# EAGLE library part USB-A (library usb)
USB 2.0 4Pin A Type Male Plug SMT Connector
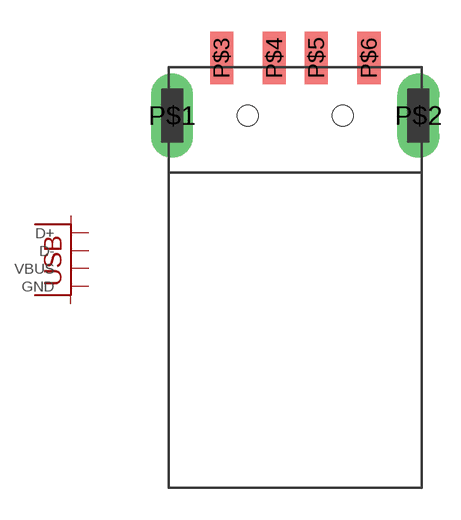
[diagram p0: symbol with the pads of USB-A-SMT; footprint USB-A-SMT]

Designator prefix -

## USB-A  [USB-A-SMT]
P$1  GND  sup
P$2  GND  sup
P$3  GND  sup
P$4  D+
P$5  D-
P$6  VBUS  sup

## Footprint USB-A-SMT (pad centres in mm)
drill 1 pad 2 long: P$1 -5.85,2.7; P$2 5.85,2.7
smd 1.1 x 2.5: P$3 -3.5,5.45; P$4 -1,5.45; P$5 1,5.45; P$6 3.5,5.45
hole 1 at -2.25,2.7
hole 1 at 2.25,2.7